# Altium footprint library HDRV20W50P200_2X10_2000X394X575P.PcbLib: 1 footprints
Each footprint in its own frame and in the unit in brackets; x right, y up, seen from the top. Pads: shape width x height; smd on the part's side, far side on the other; paste and mask are expansions set on the pad; w line width, h text height; cw(c..) or ccw(c..) is an arc to the next point about the centre after c.
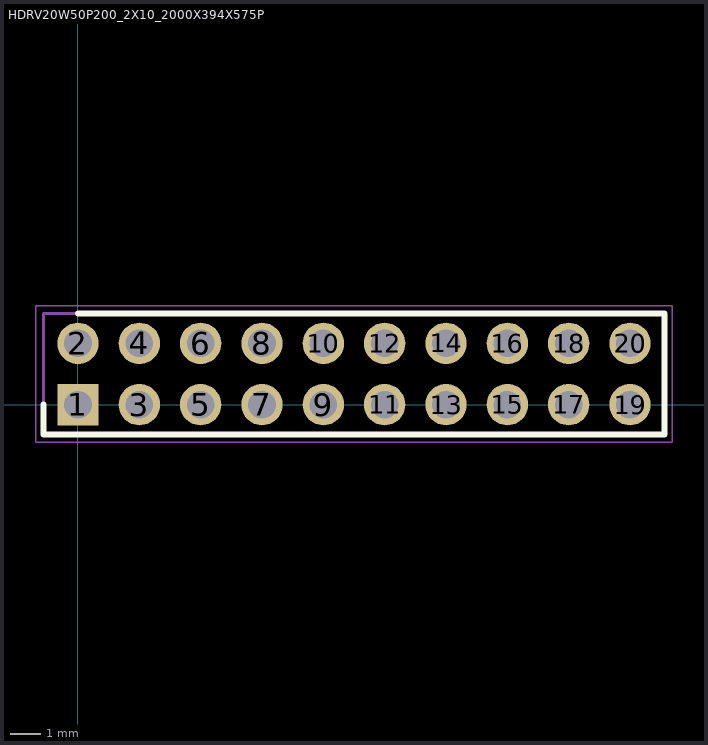
[diagram p0: the footprint, top view; thin cyan lines are the x and y axes]

## HDRV20W50P200_2X10_2000X394X575P [mm]
pads (20):
  rect 1.35x1.35 / inner round 1.35 / far side rect 1.35x1.35 hole 0.9: 1(0,0)
  round 1.35 hole 0.9: 2(0,2) 3(2,0) 4(2,2) 5(4,0) 6(4,2) 7(6,0) 8(6,2) 9(8,0) 10(8,2) 11(10,0) 12(10,2) 13(12,0) 14(12,2) 15(14,0) 16(14,2) 17(16,0) 18(16,2) 19(18,0) 20(18,2)
Top Overlay:
  lines w0.2: -1.125,0 -1.125,-0.97 19.125,-0.97 19.125,2.97 0,2.97
Mechanical 15:
  lines w0.1: -1.125,-0.97 -1.125,2.97 19.125,2.97 19.125,-0.97 -1.125,-0.97
Mechanical 20:
  lines w0.05: -1.375,-1.22 -1.375,3.22 19.375,3.22 19.375,-1.22 -1.375,-1.22
3D body "TMM-110-03-S-D.stp": height 5.8, standoff -4.65, extent -10,-3.376 10,3.376